# Altium schematic symbol library Foto.SchLib: 1 symbol
Pins are listed as number, name and electrical type; pins without a type are passive.

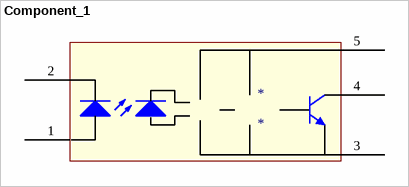
[diagram p0: symbol Component_1]

## Component_1
designator *
pins: 1, 1 E, 2, 2 B, 3 (power), 4 (power), 5 (power)